# Altium footprint library PCB - HEADERS - Samtec - Jumper.PcbLib: 1 footprints
Each footprint in its own frame and in the unit in brackets; x right, y up, seen from the top. Pads: shape width x height; smd on the part's side, far side on the other; paste and mask are expansions set on the pad; w line width, h text height; cw(c..) or ccw(c..) is an arc to the next point about the centre after c.
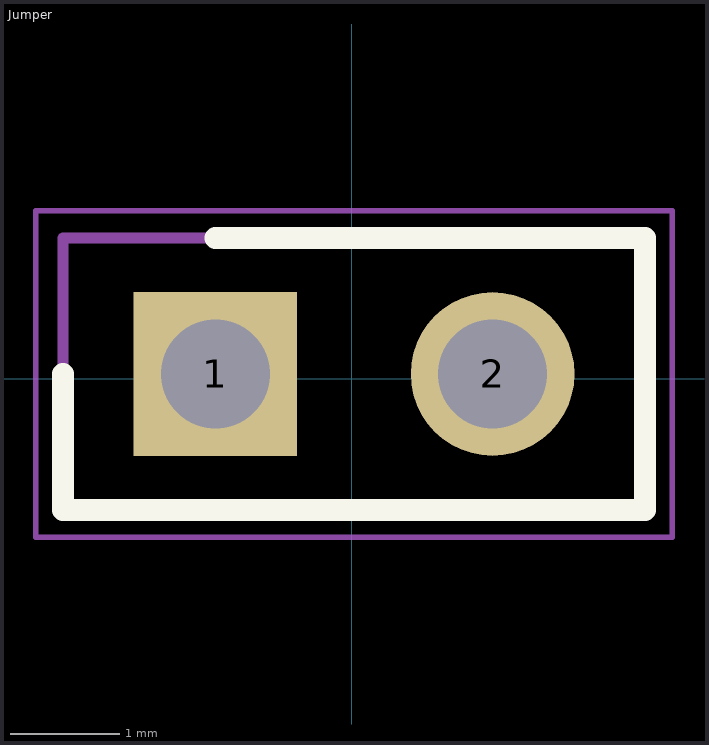
[diagram p0: the footprint, top view; thin cyan lines are the x and y axes]

## Jumper [mm]
pads (2):
  rect 1.5x1.5 hole 1: 1(-1.247,0.042)
  round 1.5 hole 1: 2(1.293,0.042)
Top Overlay:
  lines w0.2: -2.642,0.042 -2.642,-1.203 2.688,-1.203 2.688,1.287 -1.247,1.287
Mechanical 13:
  lines w0.1: -2.642,-1.203 2.688,-1.203 2.688,1.287 -2.642,1.287 -2.642,-1.203
Mechanical 15:
  lines w0.05: -2.892,-1.453 2.938,-1.453 2.938,1.537 -2.892,1.537 -2.892,-1.453
3D body: height 1.08, standoff 0.44, extent -1.587,-0.287 1.588,0.347
3D body: height 0.76, standoff -2.41, extent 0.955,-0.292 1.587,0.342
3D body: height 0.76, standoff -2.41, extent -1.585,-0.292 -0.953,0.342